# Altium footprint library Diode.PcbLib: 5 footprints
Each footprint in its own frame and in the unit in brackets; x right, y up, seen from the top. Pads: shape width x height; smd on the part's side, far side on the other; paste and mask are expansions set on the pad; w line width, h text height; cw(c..) or ccw(c..) is an arc to the next point about the centre after c.
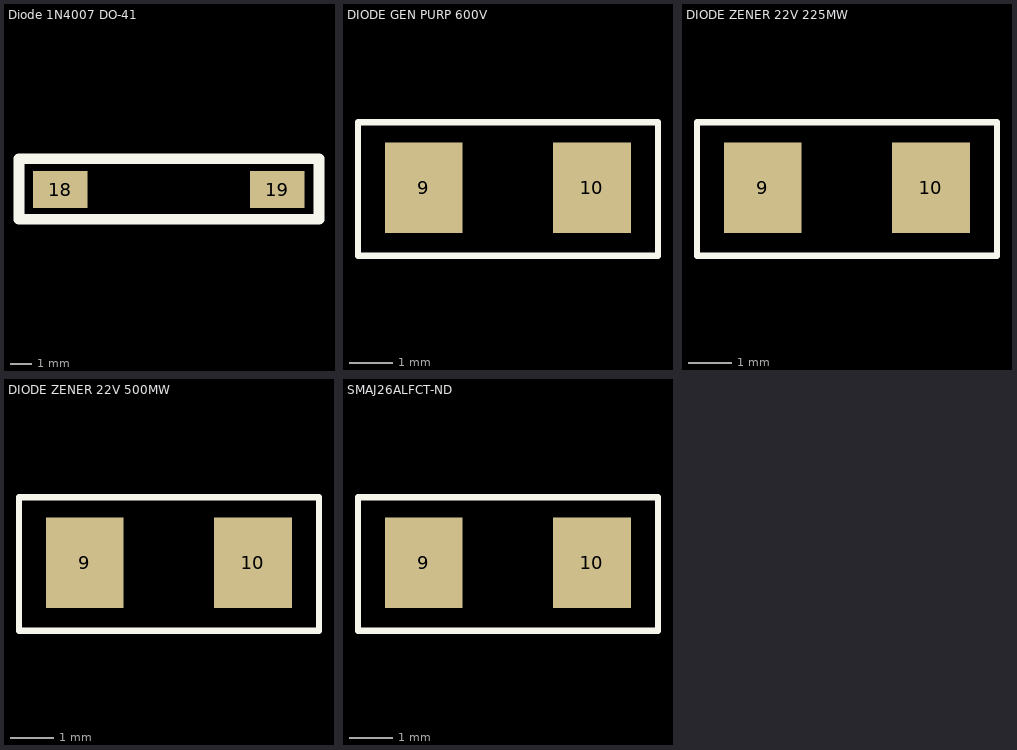
[diagram p0: the footprints below, top view; thin cyan lines are the x and y axes]

## Diode 1N4007 DO-41 [mm]
pads (2):
  rect 2.5x1.7 smd mask+0.102: 18(1254.125,1260.729) 19(1264.125,1260.729)
Top Overlay:
  lines w0.5: 1252.22,1259.357 1252.22,1262.151 1266.049,1262.151 1266.049,1259.357 1252.22,1259.357
3D body "User Library-DO-41-2.step": height 2.72, standoff -2.6, extent 1253.566,1259.369 1264.59,1262.089

## DIODE GEN PURP 600V [mm] "DIODE GEN PURP 600V"
pads (2):
  rect 1.8x2.1 smd mask+0.102: 9(1257.102,1262.534) 10(1261.002,1262.534)
Top Overlay:
  lines w0.15: 1255.578,1260.96 1262.534,1260.96 1262.534,1264.058 1255.578,1264.058 1255.578,1260.96
3D body "27674.stp": height 2, standoff 0, extent 1256.578,1261.237 1261.578,1263.837

## DIODE ZENER 22V 225MW [mm]
pads (2):
  rect 1.8x2.1 smd mask+0.102: 9(1257.102,1262.534) 10(1261.002,1262.534)
Top Overlay:
  lines w0.15: 1255.578,1260.96 1262.534,1260.96 1262.534,1264.058 1255.578,1264.058 1255.578,1260.96
3D body "27813.stp": height 2, standoff 0, extent 1256.591,1261.216 1261.591,1263.816

## DIODE ZENER 22V 500MW [mm]
pads (2):
  rect 1.8x2.1 smd mask+0.102: 9(1257.102,1262.534) 10(1261.002,1262.534)
Top Overlay:
  lines w0.15: 1255.578,1260.96 1262.534,1260.96 1262.534,1264.058 1255.578,1264.058 1255.578,1260.96
3D body "27813.stp": height 2, standoff 0, extent 1256.591,1261.216 1261.591,1263.816

## SMAJ26ALFCT-ND [mm]
pads (2):
  rect 1.8x2.1 smd mask+0.102: 9(1260.277,1266.09) 10(1264.177,1266.09)
Top Overlay:
  lines w0.15: 1258.753,1264.516 1265.709,1264.516 1265.709,1267.614 1258.753,1267.614 1258.753,1264.516
3D body "User Library-SMAJ.step": height 1.9, standoff -0.09, extent 1259.777,1264.942 1264.707,1267.481